# EAGLE library part ATMEGA328P-32PIN (library avr)
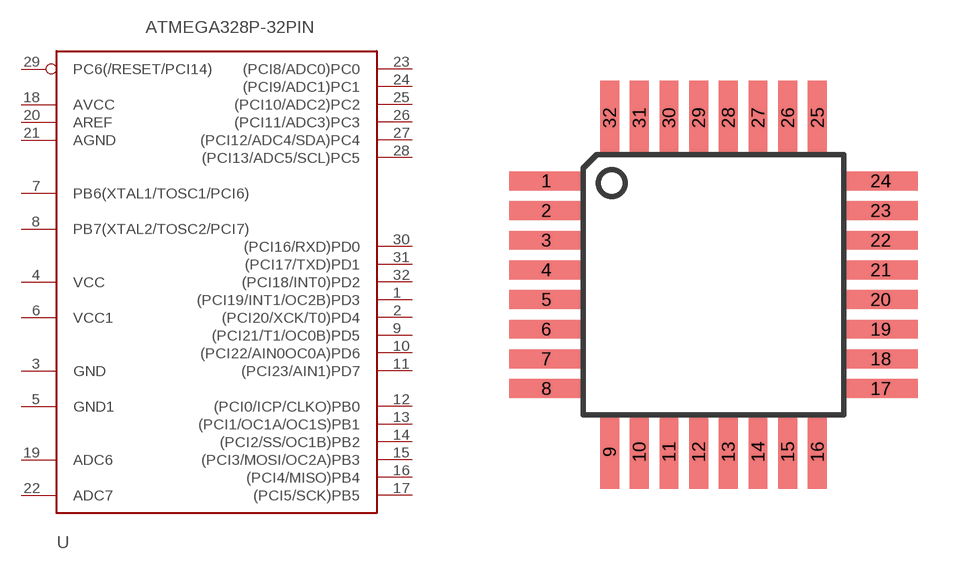
[diagram p4: symbol with the pads of TQFP32-08; footprint TQFP32-08]

Designator prefix -

## ATMEGA328P-32PIN-AU  [TQFP32-08]
1  (PCI19/INT1/OC2B)PD3
2  (PCI20/XCK/T0)PD4
3  GND
4  VCC
5  GND1
6  VCC1
7  PB6(XTAL1/TOSC1/PCI6)
8  PB7(XTAL2/TOSC2/PCI7)
9  (PCI21/T1/OC0B)PD5
10  (PCI22/AIN0OC0A)PD6
11  (PCI23/AIN1)PD7
12  (PCI0/ICP/CLKO)PB0
13  (PCI1/OC1A/OC1S)PB1
14  (PCI2/SS/OC1B)PB2
15  (PCI3/MOSI/OC2A)PB3
16  (PCI4/MISO)PB4
17  (PCI5/SCK)PB5
18  AVCC
19  ADC6
20  AREF
21  AGND
22  ADC7
23  (PCI8/ADC0)PC0
24  (PCI9/ADC1)PC1
25  (PCI10/ADC2)PC2
26  (PCI11/ADC3)PC3
27  (PCI12/ADC4/SDA)PC4
28  (PCI13/ADC5/SCL)PC5
29  PC6(/RESET/PCI14)
30  (PCI16/RXD)PD0
31  (PCI17/TXD)PD1
32  (PCI18/INT0)PD2

## Footprint TQFP32-08 (pad centres in mm)
Thin Plasic Quad Flat Package Grid 0.8 mm
smd 2 x 0.508: 1 -4.505,2.8; 2 -4.505,2; 3 -4.505,1.2; 4 -4.505,0.4; 5 -4.505,-0.4; 6 -4.505,-1.2; 7 -4.505,-2; 8 -4.505,-2.8; 17 4.505,-2.8; 18 4.505,-2; 19 4.505,-1.2; 20 4.505,-0.4; 21 4.505,0.4; 22 4.505,1.2; 23 4.505,2; 24 4.505,2.8
smd 0.508 x 2: 9 -2.8,-4.505; 10 -2,-4.505; 11 -1.2,-4.505; 12 -0.4,-4.505; 13 0.4,-4.505; 14 1.2,-4.505; 15 2,-4.505; 16 2.8,-4.505; 25 2.8,4.505; 26 2,4.505; 27 1.2,4.505; 28 0.4,4.505; 29 -0.4,4.505; 30 -1.2,4.505; 31 -2,4.505; 32 -2.8,4.505